# Altium schematic symbol library HW_ADHERENT_NFC_R1_L3.SchLib: 1628 symbols (part 31 of 31)
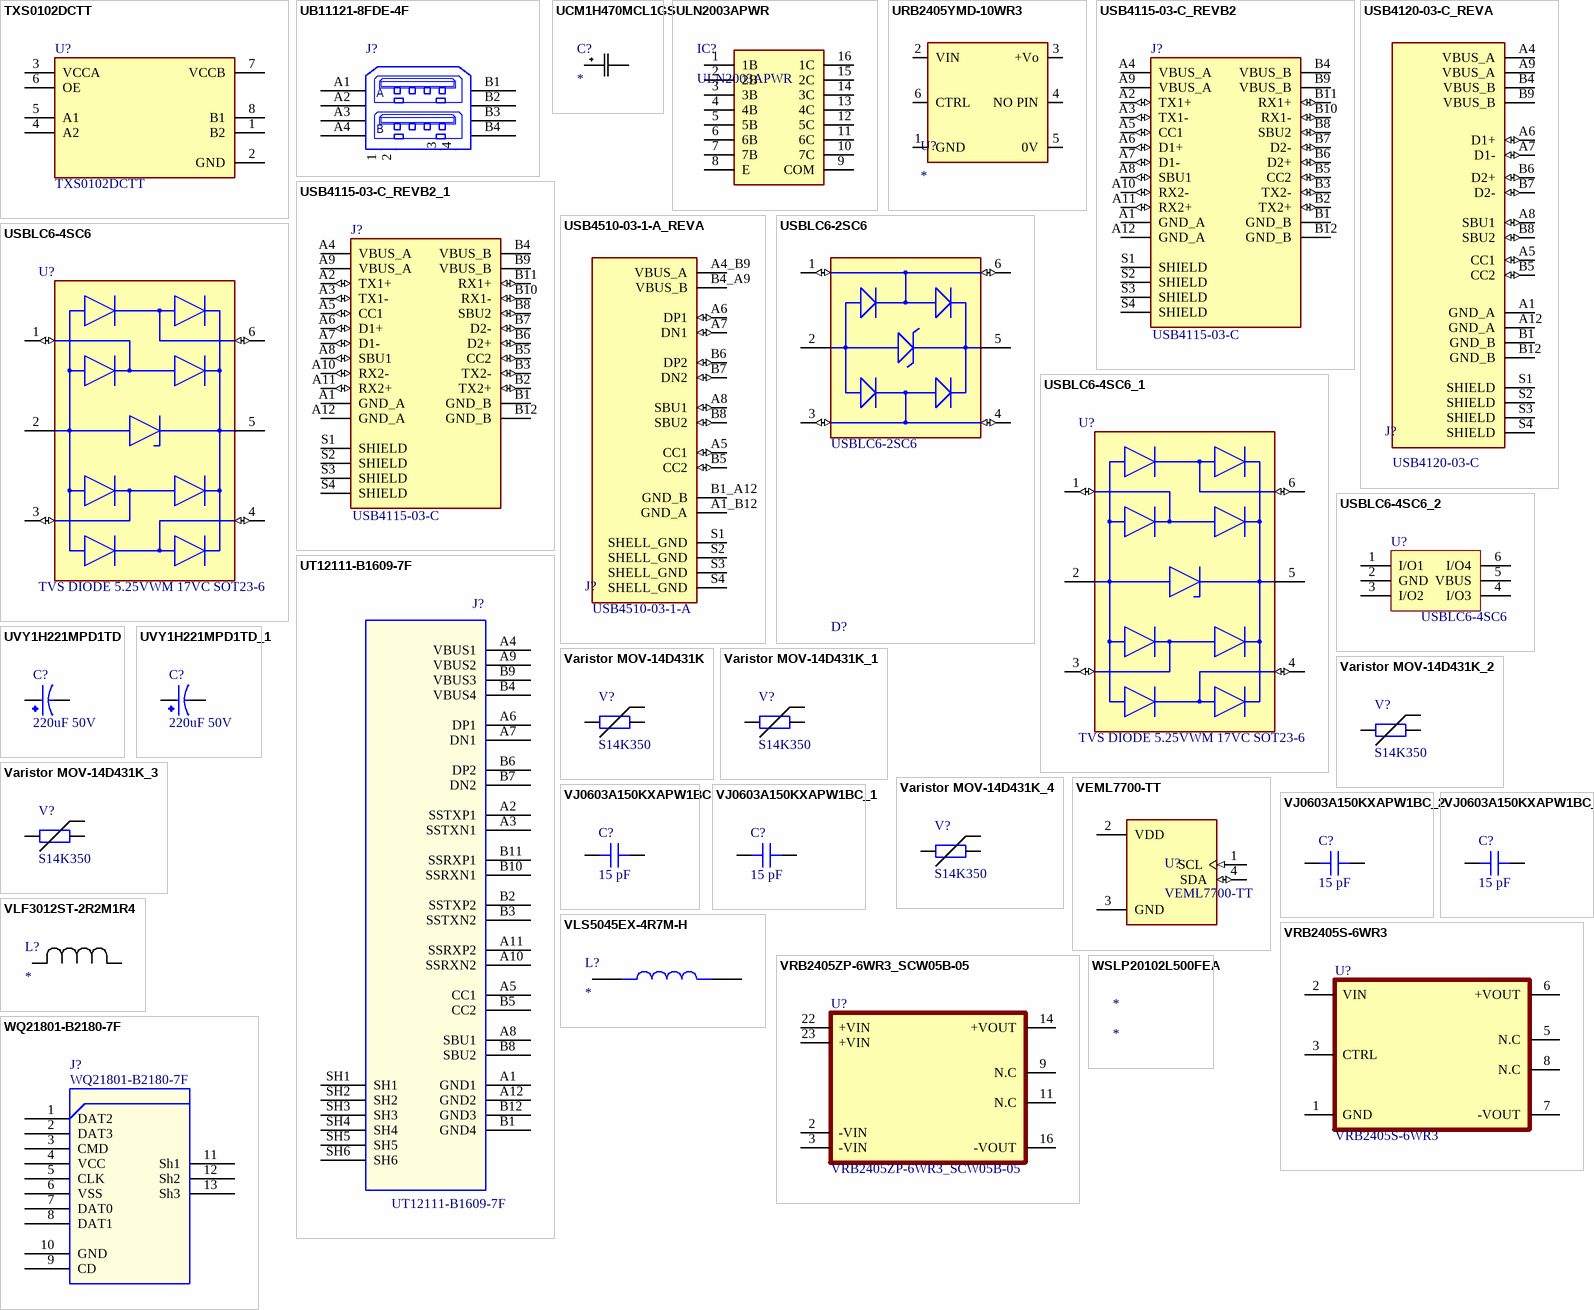
[diagram p80: symbols TXS0102DCTT to WSLP20102L500FEA]

## URB2405YMD-10WR3
designator U?
Isolated Module DC DC Converter 1 Output 5V 2A 9V - 36V Input; Manufacturer: Mornsun America, LLC; Supplier: 2725-URB2405YMD-10WR3-ND
footprint URB2405YMD-10WR3
pins: 1 GND, 2 VIN, 3 +Vo, 4 NO PIN, 5 0V, 6 CTRL

## USB4115-03-C_REVB2
designator J?, comment Manufacturer Part Number: USB4115-03-C  (hidden comment: CONN USB3.1 TYPE-C VERT SOCKET)
USB-C (USB TYPE-C) USB 3.2 Gen 2 (USB 3.1 Gen 2, Superspeed + (USB 3.1)) Receptacle Connector 24 Position Surface Mount, Through Hole; Order Code: Digi: 2073-USB4115-03-CTR-ND
footprint GCT_USB4115-03-C_REVB2
pins: A1 GND_A (power), A2 TX1+ (io), A3 TX1- (io), A4 VBUS_A (power), A5 CC1 (io), A6 D1+ (io), A7 D1- (io), A8 SBU1 (io), A9 VBUS_A (power), A10 RX2- (io), A11 RX2+ (io), A12 GND_A (power), B1 GND_B (power), B2 TX2+ (io), B3 TX2- (io), B4 VBUS_B (power), B5 CC2 (io), B6 D2+ (io), B7 D2- (io), B8 SBU2 (io), B9 VBUS_B (power), B10 RX1- (io), B11 RX1+ (io), B12 GND_B (power), S1 SHIELD, S2 SHIELD, S3 SHIELD, S4 SHIELD

## USB4115-03-C_REVB2_1
designator J?, comment Manufacturer Part Number: USB4115-03-C  (hidden comment: CONN USB3.1 TYPE-C VERT SOCKET)
USB-C (USB TYPE-C) USB 3.2 Gen 2 (USB 3.1 Gen 2, Superspeed + (USB 3.1)) Receptacle Connector 24 Position Surface Mount, Through Hole; Order Code: Digi: 2073-USB4115-03-CTR-ND
footprint GCT_USB4115-03-C_REVB2
pins: A1 GND_A (power), A2 TX1+ (io), A3 TX1- (io), A4 VBUS_A (power), A5 CC1 (io), A6 D1+ (io), A7 D1- (io), A8 SBU1 (io), A9 VBUS_A (power), A10 RX2- (io), A11 RX2+ (io), A12 GND_A (power), B1 GND_B (power), B2 TX2+ (io), B3 TX2- (io), B4 VBUS_B (power), B5 CC2 (io), B6 D2+ (io), B7 D2- (io), B8 SBU2 (io), B9 VBUS_B (power), B10 RX1- (io), B11 RX1+ (io), B12 GND_B (power), S1 SHIELD, S2 SHIELD, S3 SHIELD, S4 SHIELD

## USB4120-03-C_REVA
designator J?, comment Manufacturer Part Number: USB4120-03-C  (hidden comment: CONN RCPT USB2.0 TYP C 24POS SMD)
USB-C (USB TYPE-C) USB 2.0 Receptacle Connector 24 (16+8 Dummy) Position Surface Mount, Through Hole; Order Code: DIGI: 2073-USB4120-03-CTR-ND
footprint GCT_USB4120-03-C_REVA
pins: A1 GND_A (power), A4 VBUS_A (power), A5 CC1 (io), A6 D1+ (io), A7 D1- (io), A8 SBU1 (io), A9 VBUS_A (power), A12 GND_A (power), B1 GND_B (power), B4 VBUS_B (power), B5 CC2 (io), B6 D2+ (io), B7 D2- (io), B8 SBU2 (io), B9 VBUS_B (power), B12 GND_B (power), S1 SHIELD, S2 SHIELD, S3 SHIELD, S4 SHIELD

## USB4510-03-1-A_REVA
designator J?, comment Manufacturer Part Number: USB4510-03-1-A  (hidden comment: USB C REC 16P 3U" MID MNT 1.6MM)
USB-C (USB TYPE-C) USB 2.0 Receptacle Connector 24 (16+8 Dummy) Position Board Edge, Cutout; Surface Mount; Through Hole, Right Angle; Order Code: DIGI: 2073-USB4510-03-1-ATR-ND
footprint GCT_USB4510-03-1-A_REVA
pins: A1_B12 GND_A (power), A4_B9 VBUS_A (power), A5 CC1 (io), A6 DP1 (io), A7 DN1 (io), A8 SBU1 (io), B1_A12 GND_B (power), B4_A9 VBUS_B (power), B5 CC2 (io), B6 DP2 (io), B7 DN2 (io), B8 SBU2 (io), S1 SHELL_GND (power), S2 SHELL_GND (power), S3 SHELL_GND (power), S4 SHELL_GND (power)

## USBLC6-2SC6
designator D?, comment Manufacturer Part Number: USBLC6-2SC6  (hidden comment: TVS DIODE 5.25VWM 17VC SOT23-6)
17V Clamp 5A (8/20µs) Ipp Tvs Diode Surface Mount SOT-23-6; Order Code: DIGI: 497-5235-2-ND
footprint STMicroelectronics_SOT23-6L_IPC_A
footprint STMicroelectronics_SOT23-6L_IPC_B
footprint STMicroelectronics_SOT23-6L_IPC_C
footprint STMicroelectronics_SOT23-6L_MFG
pins: 1 I/O1 (io), 2 GND (power), 3 I/O2 (io), 4 I/O2 (io), 5 VBUS (power), 6 I/O1 (io)

## USBLC6-4SC6
designator U?, comment TVS DIODE 5.25VWM 17VC SOT23-6
17V Clamp 5A (8/20µs) Ipp Tvs Diode Surface Mount SOT-23-6; Manufacturer Part Number: USBLC6-4SC6; Order Code: Digi: 497-4492-2-ND; LCSC Manufacturer Part NUmber: USBLC6-4SC6; LCSC Part Number: C111212
footprint SOT95P280X145-6N
pins: 1 I/O1 (io), 2 GND, 3 I/O2 (io), 4 I/O3 (io), 5 VP (power), 6 I/O4 (io)

## USBLC6-4SC6_1
designator U?, comment TVS DIODE 5.25VWM 17VC SOT23-6
17V Clamp 5A (8/20µs) Ipp Tvs Diode Surface Mount SOT-23-6; Manufacturer Part Number: USBLC6-4SC6; Order Code: Digi: 497-4492-2-ND; LCSC Manufacturer Part NUmber: USBLC6-4SC6; LCSC Part Number: C111212
footprint SOT95P280X145-6N
pins: 1 I/O1 (io), 2 GND, 3 I/O2 (io), 4 I/O3 (io), 5 VP (power), 6 I/O4 (io)

## USBLC6-4SC6_2
designator U?, comment USBLC6-4SC6
Very low capacitance ESD protection , 4 lines; Internal_Part_Number: MCD-00250; Part_Type: IC; Manufacturer: STMICROELECTRONICS; BMS_Part_Number: 9151001; Provided_By: SUBCO with ST control; ECCN_US: EAR99; ECCN_EU: NEC; Status: Released; Manufacturer Part Number: USBLC6-4SC6; ComponentLink1Description: Datasheet; ComponentLink1URL: http://tunmcdsvn.tun.st.com/Component_Datasheet_Library/Trunk/Diodes/STM_ESD_USBLC6-4SC6; Value: USBLC6-4SC6
footprint SOT23-6L
pins: 1 I/O1, 2 GND, 3 I/O2, 4 I/O3, 5 VBUS, 6 I/O4

## UT12111-B1609-7F
designator J?
Connector,USB C,24Pin,¨C25¡æ~£«85¡æ,SMT,Foxconn; CLASS: IO; Myir P/N: 21107.00017; Datasheet: USB_C_Foxconn_UT12111-B1609-7F_.pdf; Reserve Value: UT12111-B1609-7F; Manufacturer P/N: UT12111-B1609-7F; Manufacturer: Foxconn; Part Type: USB Connector; PCB Footprint: UT12111-B1609-7F
footprint UT12111-B1609-7F
pins: A1 GND1 (power), A2 SSTXP1, A3 SSTXN1, A4 VBUS1, A5 CC1, A6 DP1, A7 DN1, A8 SBU1, A9 VBUS2, A10 SSRXN2, A11 SSRXP2, A12 GND2 (power), B1 GND4 (power), B2 SSTXP2, B3 SSTXN2, B4 VBUS4, B5 CC2, B6 DP2, B7 DN2, B8 SBU2, B9 VBUS3, B10 SSRXN1, B11 SSRXP1, B12 GND3 (power), SH1 (power), SH2 (power), SH3 (power), SH4 (power), SH5 (power), SH6 (power)

## UVY1H221MPD1TD
designator C?  value 220uF 50V  (hidden comment: UVY1H221MPD1TD)
220 µF 50 V Aluminum Electrolytic Capacitors Radial, Can 2000 Hrs @ 105°C; Order Code: Digi: 493-12916-1-ND; Manufacturer Part Number: UVY1H221MPD1TD; LCSC Manufacturer Part Number: UVY1H221MPD1TD; LCSC Part Number: C340752
footprint CAP_RN_10X12P5_NCH
pins: 1, 2

## UVY1H221MPD1TD_1
designator C?, comment value 220uF 50V  (hidden comment: UVY1H221MPD1TD)
220 µF 50 V Aluminum Electrolytic Capacitors Radial, Can 2000 Hrs @ 105°C; Order Code: Digi: 493-12916-1-ND; Manufacturer Part Number: UVY1H221MPD1TD; LCSC Manufacturer Part Number: UVY1H221MPD1TD; LCSC Part Number: C340752
footprint CAP_RN_10X12P5_NCH
pins: 1, 2

## Varistor MOV-14D431K
designator V?, comment value S14K350  (hidden comment: MOV-14D431KTR)
VARISTOR 430V 4.5KA DISC 14MM; Manufacturer: Bourns Inc.; Manufacturer Part Number: MOV-14D431KTR; Supplier Part Number: 118-MOV-14D431KTRCT-ND
footprint Ø16.5x5.2mm (MOV-14D431KTR)
pins: 1, 2

## Varistor MOV-14D431K_1
designator V?, comment value S14K350  (hidden comment: MOV-14D431KTR)
VARISTOR 430V 4.5KA DISC 14MM; Manufacturer: Bourns Inc.; Manufacturer Part Number: MOV-14D431KTR; Supplier Part Number: 118-MOV-14D431KTRCT-ND
footprint Ø16.5x5.2mm (MOV-14D431KTR)
pins: 1, 2

## Varistor MOV-14D431K_2
designator V?, comment value S14K350  (hidden comment: MOV-14D431KTR)
VARISTOR 430V 4.5KA DISC 14MM; Manufacturer: Bourns Inc.; Manufacturer Part Number: MOV-14D431KTR; Supplier Part Number: 118-MOV-14D431KTRCT-ND
footprint Ø16.5x5.2mm (MOV-14D431KTR)
pins: 1, 2

## Varistor MOV-14D431K_3
designator V?, comment value S14K350  (hidden comment: MOV-14D431KTR)
VARISTOR 430V 4.5KA DISC 14MM; Manufacturer: Bourns Inc.; Manufacturer Part Number: MOV-14D431KTR; Supplier Part Number: 118-MOV-14D431KTRCT-ND
footprint Ø16.5x5.2mm (MOV-14D431KTR)
pins: 1, 2

## Varistor MOV-14D431K_4
designator V?, comment value S14K350  (hidden comment: MOV-14D431KTR)
VARISTOR 430V 4.5KA DISC 14MM; Manufacturer: Bourns Inc.; Manufacturer Part Number: MOV-14D431KTR; Supplier Part Number: 118-MOV-14D431KTRCT-ND
footprint Ø16.5x5.2mm (MOV-14D431KTR)
pins: 1, 2

## VEML7700-TT
designator U?
Optical Sensor Ambient - IÂ²C 4-SMD, J-Lead; MF: Vishay Semiconductor; SnapEDA_Link: https://www.snapeda.com/parts/VEML7700-TT/Vishay/view-part/?ref=snap; Package: SMD-4 Vishay Semiconductor; Value: *; MP: VEML7700-TT; Check_prices: https://www.snapeda.com/parts/VEML7700-TT/Vishay/view-part/?ref=eda
footprint XDCR_VEML7700-TT
pins: 1 SCL (in), 2 VDD (power), 3 GND (power), 4 SDA (io)

## VJ0603A150KXAPW1BC
designator C?, comment 15 pF
CAP CER 15PF 50V C0G/NP0 0603; Part Number: VJ0603A150KXAPW1BC; manufacturer: Vishay Vitramon; Temperature Coefficient: C0G, NP0; Tolerance: ±10%; Applications: General Purpose; Capacitance: 15 pF; componentlink1description: Datasheet; componentlink1url: https://www.vishay.com/docs/28548/vjw1bcbascomseries.pdf; componentlink2description: DigiKey Link; componentlink2url: https://www.digikey.com/en/products/detail/vishay-vitramon/VJ0603A150KXAPW1BC/8303121; Device Package: 0603 (1608 Metric); lastupdated: 2/9/2024 8:09:54 PM; Lifecycle Status: Active; Minimum Order: 15000; Mounting Type: Surface Mount, MLCC; Operating Temperature: -55°C ~ 125°C; Package / Case: 0603 (1608 Metric); packaging: TapeAndReel; partid: 34612; Part Status: Active; price: 0.01; series: VJ W1BC; Size / Dimension: 0.063" L x 0.031" W (1.60mm x 0.80mm); Supplier 1: DigiKey; Supplier Part Number 1: 720-VJ0603A150KXAPW1BCTR-ND; Thickness (Max): 0.034" (0.87mm); Voltage - Rated: 50V; Value: 15 pF
footprint CAP 0603_1608
pins: 1, 2

## VJ0603A150KXAPW1BC_1
designator C?, comment 15 pF
CAP CER 15PF 50V C0G/NP0 0603; Part Number: VJ0603A150KXAPW1BC; manufacturer: Vishay Vitramon; Temperature Coefficient: C0G, NP0; Tolerance: ±10%; Applications: General Purpose; Capacitance: 15 pF; componentlink1description: Datasheet; componentlink1url: https://www.vishay.com/docs/28548/vjw1bcbascomseries.pdf; componentlink2description: DigiKey Link; componentlink2url: https://www.digikey.com/en/products/detail/vishay-vitramon/VJ0603A150KXAPW1BC/8303121; Device Package: 0603 (1608 Metric); lastupdated: 2/9/2024 8:09:54 PM; Lifecycle Status: Active; Minimum Order: 15000; Mounting Type: Surface Mount, MLCC; Operating Temperature: -55°C ~ 125°C; Package / Case: 0603 (1608 Metric); packaging: TapeAndReel; partid: 34612; Part Status: Active; price: 0.01; series: VJ W1BC; Size / Dimension: 0.063" L x 0.031" W (1.60mm x 0.80mm); Supplier 1: DigiKey; Supplier Part Number 1: 720-VJ0603A150KXAPW1BCTR-ND; Thickness (Max): 0.034" (0.87mm); Voltage - Rated: 50V; Value: 15 pF
footprint CAP 0603_1608
pins: 1, 2

## VJ0603A150KXAPW1BC_2
designator C?, comment 15 pF
CAP CER 15PF 50V C0G/NP0 0603; Part Number: VJ0603A150KXAPW1BC; manufacturer: Vishay Vitramon; Temperature Coefficient: C0G, NP0; Tolerance: ±10%; Applications: General Purpose; Capacitance: 15 pF; componentlink1description: Datasheet; componentlink1url: https://www.vishay.com/docs/28548/vjw1bcbascomseries.pdf; componentlink2description: DigiKey Link; componentlink2url: https://www.digikey.com/en/products/detail/vishay-vitramon/VJ0603A150KXAPW1BC/8303121; Device Package: 0603 (1608 Metric); lastupdated: 2/9/2024 8:09:54 PM; Lifecycle Status: Active; Minimum Order: 15000; Mounting Type: Surface Mount, MLCC; Operating Temperature: -55°C ~ 125°C; Package / Case: 0603 (1608 Metric); packaging: TapeAndReel; partid: 34612; Part Status: Active; price: 0.01; series: VJ W1BC; Size / Dimension: 0.063" L x 0.031" W (1.60mm x 0.80mm); Supplier 1: DigiKey; Supplier Part Number 1: 720-VJ0603A150KXAPW1BCTR-ND; Thickness (Max): 0.034" (0.87mm); Voltage - Rated: 50V; Value: 15 pF
footprint CAP 0603_1608
pins: 1, 2

## VJ0603A150KXAPW1BC_3
designator C?, comment 15 pF
CAP CER 15PF 50V C0G/NP0 0603; Part Number: VJ0603A150KXAPW1BC; manufacturer: Vishay Vitramon; Temperature Coefficient: C0G, NP0; Tolerance: ±10%; Applications: General Purpose; Capacitance: 15 pF; componentlink1description: Datasheet; componentlink1url: https://www.vishay.com/docs/28548/vjw1bcbascomseries.pdf; componentlink2description: DigiKey Link; componentlink2url: https://www.digikey.com/en/products/detail/vishay-vitramon/VJ0603A150KXAPW1BC/8303121; Device Package: 0603 (1608 Metric); lastupdated: 2/9/2024 8:09:54 PM; Lifecycle Status: Active; Minimum Order: 15000; Mounting Type: Surface Mount, MLCC; Operating Temperature: -55°C ~ 125°C; Package / Case: 0603 (1608 Metric); packaging: TapeAndReel; partid: 34612; Part Status: Active; price: 0.01; series: VJ W1BC; Size / Dimension: 0.063" L x 0.031" W (1.60mm x 0.80mm); Supplier 1: DigiKey; Supplier Part Number 1: 720-VJ0603A150KXAPW1BCTR-ND; Thickness (Max): 0.034" (0.87mm); Voltage - Rated: 50V; Value: 15 pF
footprint CAP 0603_1608
pins: 1, 2

## VLF3012ST-2R2M1R4
designator L?
No Description Available; Mfr_Name: TDK
pins: 1, 2

## VLS5045EX-4R7M-H
designator L?
4.7 µH Shielded Drum Core, Wirewound Inductor 3.2 A 46.8mOhm Max Nonstandard; MPN: VLS5045EX-4R7M-H; Manufacturer: TDK
footprint IND_VLS5045EX-4R7M-H
pins: 1, 2

## VRB2405S-6WR3
designator U?
footprint VRB2405S-6WR3
pins: 1 GND, 2 VIN, 3 CTRL, 5 N.C, 6 +VOUT, 7 -VOUT, 8 N.C

## VRB2405ZP-6WR3_SCW05B-05
designator U?
footprint VRB2405ZP-6WR3 (Power Supply / Mean Well)
pins: 2 -VIN, 3 -VIN, 9 N.C, 11 N.C, 14 +VOUT, 16 -VOUT, 22 +VIN, 23 +VIN

## WQ21801-B2180-7F
designator J?
Connector,Micro SD Card,8Pin,gold flash,Black,-25~85¡æ,SMT,Foxconn; Myir P/N: 21112.00009; Mark: 1; PCB Footprint: WQ21801-B2180-7F; Datasheet: SD_Foxconn_WQ21801-B2180-7F.pdf; Reserve Value: WQ21801-B2180-7F; Manufacturer P/N: WQ21801-B2180-7F; Manufacturer: Foxconn; Part Type: Card Connector
footprint WQ21801-B2180-7F
pins: 1 DAT2, 2 DAT3, 3 CMD, 4 VCC, 5 CLK, 6 VSS, 7 DAT0, 8 DAT1, 9 CD, 10 GND, 11 Sh1, 12 Sh2, 13 Sh3

## WSLP20102L500FEA
designator *
CURRENT SENSE, RESISTOR, WSLP2010.00251%EAe3 | Vishay Dale WSLP20102L500FEA; Supplier 1: Digikey; Manufacturer: Vishay Dale; Manufacturer Part Number: WSLP20102L500FEA; Category: Chip SMD Resistors; Stock 1: 33384; Pricing 1: 1=0.82, 10=0.65, 25=0.5872, 50=0.5284, 100=0.4364, 250=0.41096, 500=0.33268, 1000=0.26907 (USD); RoHS Compliant: Yes; Supplier Part Number 1: 541-WSLP20102L500FEACT-ND
footprint RESC5125X89N

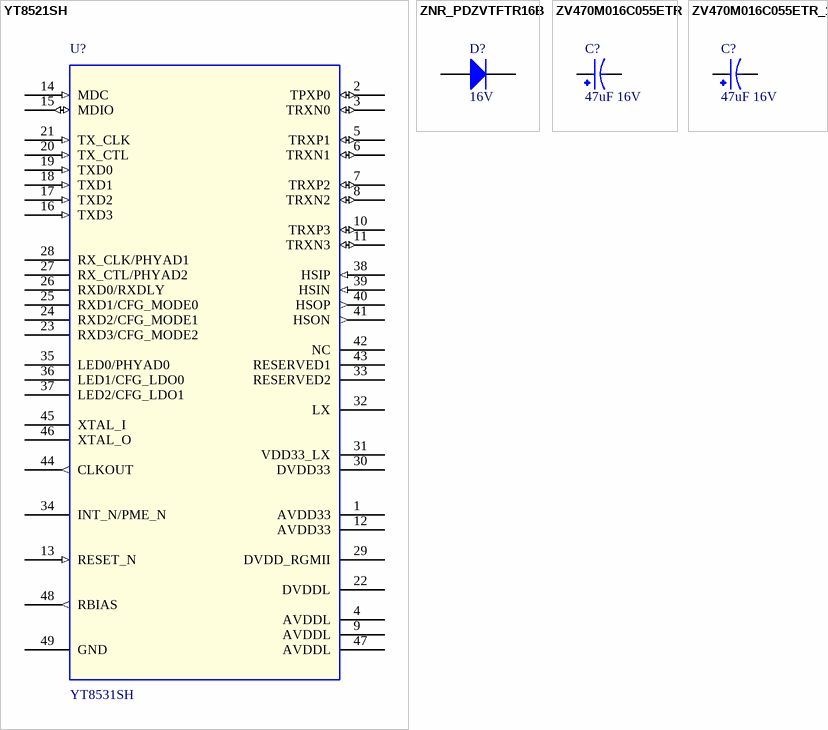
[diagram p50: symbols YT8521SH to ZV470M016C055ETR_1]

## YT8521SH
designator U?, comment YT8531SH
IC,Ethernet Physical Layer Transceiver,10/100/1000M,-40¡æ~+85¡æ,SMD,QFN48,Motorcomm; Myir P/N: 20107.80039; PCB Footprint: QFN48-0_4; Part Type: Interface; Manufacturer: Motorcomm; Manufacturer P/N: YT8531SH; Reserve Value: YT8531SH; Datasheet: YT8531SH_YT8531SC_Datasheet_draft.pdf
footprint QFN48
footprint QFN48-0_4
pins: 1 AVDD33 (power), 2 TPXP0 (io), 3 TRXN0 (io), 4 AVDDL (power), 5 TRXP1 (io), 6 TRXN1 (io), 7 TRXP2 (io), 8 TRXN2 (io), 9 AVDDL (power), 10 TRXP3 (io), 11 TRXN3 (io), 12 AVDD33 (power), 13 RESET_N (in), 14 MDC (in), 15 MDIO (io), 16 TXD3 (in), 17 TXD2 (in), 18 TXD1 (in), 19 TXD0 (in), 20 TX_CTL (in), 21 TX_CLK (in), 22 DVDDL (power), 23 RXD3/CFG_MODE2, 24 RXD2/CFG_MODE1, 25 RXD1/CFG_MODE0, 26 RXD0/RXDLY, 27 RX_CTL/PHYAD2, 28 RX_CLK/PHYAD1, 29 DVDD_RGMII (power), 30 DVDD33 (power), 31 VDD33_LX (power), 32 LX, 33 RESERVED2, 34 INT_N/PME_N, 35 LED0/PHYAD0, 36 LED1/CFG_LDO0, 37 LED2/CFG_LDO1, 38 HSIP (in), 39 HSIN (in), 40 HSOP (out), 41 HSON (out), 42 NC, 43 RESERVED1 (power), 44 CLKOUT (out), 45 XTAL_I, 46 XTAL_O, 47 AVDDL (power), 48 RBIAS (out), 49 GND (power)

## ZNR_PDZVTFTR16B
designator D?, comment 16V
DIODE ZENER 16V 1W SOD128; Manufacturer Part Number: PDZVTFTR16B; Value: 16V 1W; Order Code: DIGI : PDZVTFTR16BCT-ND
footprint SOD128_PMEG10030ELPX
pins: 1 A, 2 K

## ZV470M016C055ETR
designator C?, comment value 47uF 16V  (hidden comment: 47uF 16V ±20% SMD,D5xL5.5mm Aluminum Electrolytic Capacitors - SMD ROHS)
Manufacturer Part Number: ZV470M016C055ETR; Order Code: LCSC: C84357; LCSC Manufacturer Part Number: ZV470M016C055ETR; LCSC Part Number: C84357
footprint CAP_16SVPG47M
pins: 1, 2

## ZV470M016C055ETR_1
designator C?, comment value 47uF 16V  (hidden comment: 47uF 16V ±20% SMD,D5xL5.5mm Aluminum Electrolytic Capacitors - SMD ROHS)
Manufacturer Part Number: ZV470M016C055ETR; Order Code: LCSC: C84357; LCSC Manufacturer Part Number: ZV470M016C055ETR; LCSC Part Number: C84357
footprint CAP_16SVPG47M
pins: 1, 2